# EAGLE library part ICL7611 (library maxim)
Single Operational Amplifiers Source: http://datasheets.maxim-ic.com/en/ds/ICL7612-ICL764X.pdf
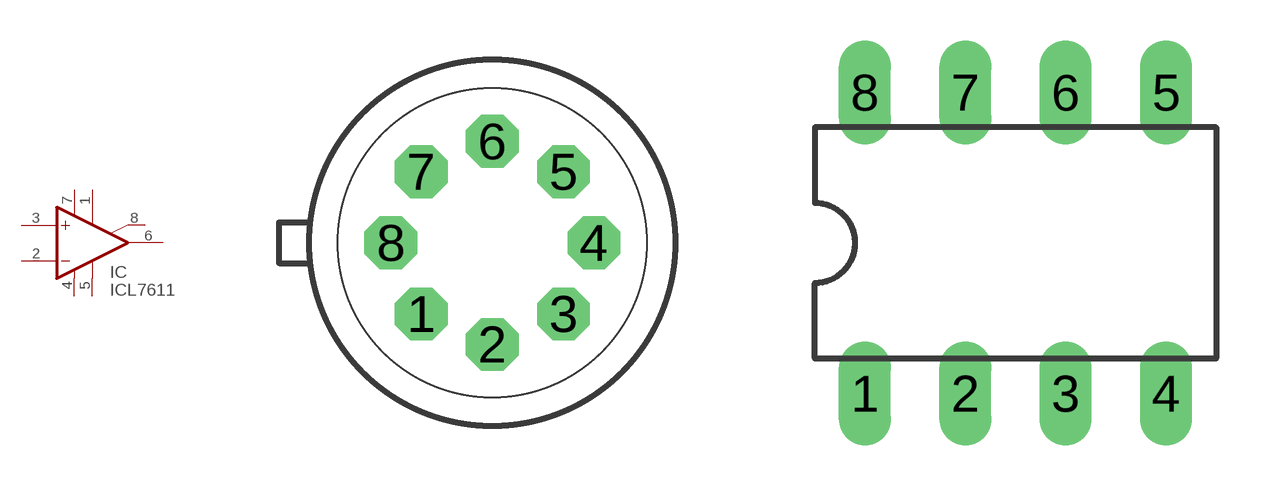
[diagram p319: symbol with the pads of TO99; footprints TO99, DIL08]

Designator prefix IC

## ICL7611ACTV (OC_FARNELL: unknown; OC_NEWARK: unknown), ICL7611AMTV (OC_FARNELL: unknown; OC_NEWARK: unknown), ICL7611BCTV (OC_FARNELL: unknown; OC_NEWARK: unknown), ICL7611BMTV (OC_FARNELL: unknown; OC_NEWARK: unknown), ICL7611DCTV (OC_FARNELL: unknown; OC_NEWARK: unknown)  [TO99]
1  OFF1  pas
2  -IN  in
3  +IN  in
4  V-  pwr
5  OFF2  pas
6  OUT  out
7  V+  pwr
8  IOSET  pas

## ICL7611ACPA (MPN: ICL7611ACPA+; OC_FARNELL: unknown; OC_NEWARK: 57K8761), ICL7611BCPA (MPN: ICL7611BCPA+; OC_FARNELL: unknown; OC_NEWARK: 57K8762), ICL7611DCPA (MF: INTERSIL; MPN: ICL7611DCPA; OC_FARNELL: 1018166; OC_NEWARK: 06F7397)  [DIL08]
Pads as for TO99

## ICL7611ACSA (OC_FARNELL: unknown; OC_NEWARK: unknown), ICL7611BCSA (MPN: ICL7611BCSA+T; OC_FARNELL: unknown; OC_NEWARK: 53K6532), ICL7611BESA (OC_FARNELL: unknown; OC_NEWARK: unknown), ICL7611DCSA (MF: MAXIM; MPN: ICL7611DCSA; OC_FARNELL: unknown; OC_NEWARK: 77C6629), ICL7611DESA (MPN: ICL7611DESA+T; OC_FARNELL: unknown; OC_NEWARK: 53K6536)  [SO08]
Pads as for TO99

## Footprint TO99 (pad centres in mm)
TO-99
drill 0.813 octagon: 1 -1.778,-1.778; 2 0,-2.54; 3 1.778,-1.778; 4 2.54,0; 5 1.778,1.778; 6 0,2.54; 7 -1.778,1.778; 8 -2.54,0

## Footprint DIL08 (pad centres in mm)
Dual In Line Package
drill 0.813 long: 1 -3.81,-3.81; 2 -1.27,-3.81; 3 1.27,-3.81; 4 3.81,-3.81; 5 3.81,3.81; 6 1.27,3.81; 7 -1.27,3.81; 8 -3.81,3.81

## Footprint SO08 (pad centres in mm)
Small Outline Package SOIC 150 mil
smd 0.66 x 2.032: 1 -1.905,-3.073; 2 -0.635,-3.073; 3 0.635,-3.073; 4 1.905,-3.073; 5 1.905,3.073; 6 0.635,3.073; 7 -0.635,3.073; 8 -1.905,3.073